# Altium footprint library receiver.PcbLib: 10 footprints
Each footprint in its own frame and in the unit in brackets; x right, y up, seen from the top. Pads: shape width x height; smd on the part's side, far side on the other; paste and mask are expansions set on the pad; w line width, h text height; cw(c..) or ccw(c..) is an arc to the next point about the centre after c.
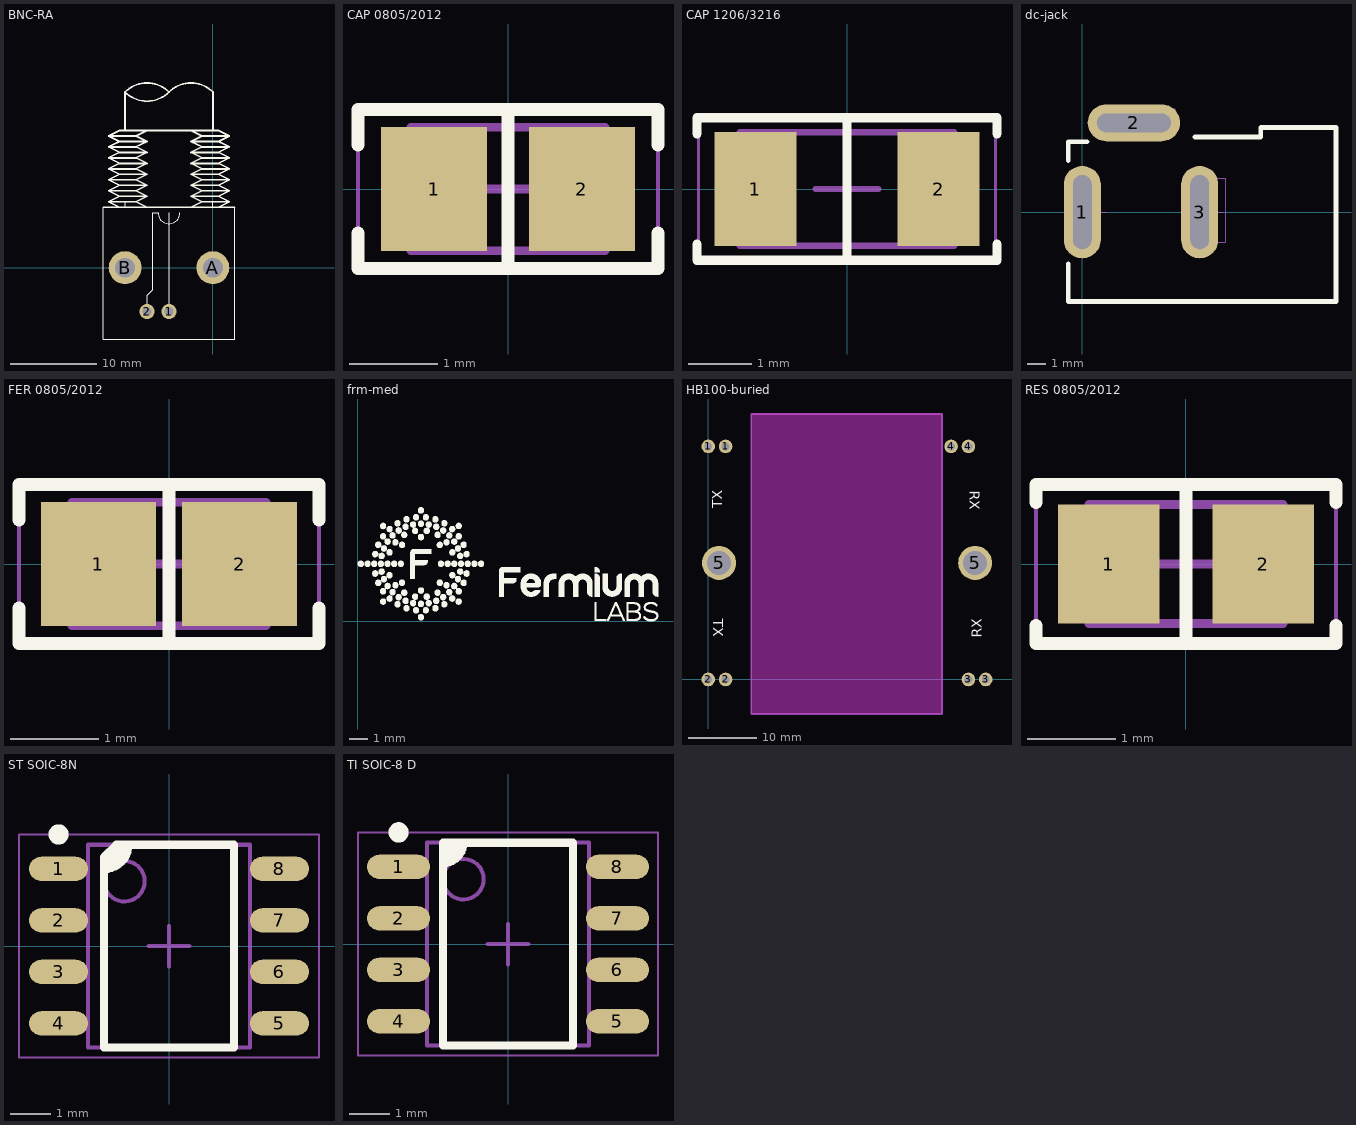
[diagram p0: the footprints below, top view; thin cyan lines are the x and y axes]

## BNC-RA [mil]
pads (4):
  round 70 hole 40: 1(-200,-200) 2(-300,-200)
  round 150 hole 90: A(0,0) B(-400,0)
Top Overlay:
  lines w4: -400,275 -400,300 ; -325,275 100,275 ; -300,-200 -300,-125 -275,-100 -275,250 -250,250 ccw(c-200,250) -150,250 ; -300,275 -500,275 -500,25 -500,-325 100,-325 100,275 ; -200,-200 -200,200 -200,250 -200,225 ; 0,275 0,300 ; 100,-225 100,275
  lines w8: -500,275 100,275 ; -425,275 -475,300 ; -400.17,799.83 ccw(c-300,900) -199.83,799.83 ; -400.17,800.17 cw(c-300,700) -199.83,800.17 ; -400,625 -400,800 ; -300,275 -350,300 ; -200.17,800.17 cw(c-100,700) 0.17,800.17 ; -100,275 -50,300 ; 0,625 0,800 ; 25,275 75,300 ; -475,300 -350,300 ; -475,300 -425,325 ; -475,350 -350,350 ; -475,350 -425,375 ; -475,350 -425,325 ; -475,400 -350,400 ; -475,400 -425,425 ; -475,400 -425,375 ; -475,450 -350,450 ; -475,450 -425,475 ; -475,450 -425,425 ; -475,500 -350,500 ; -475,500 -425,525 ; -475,500 -425,475 ; -475,550 -350,550 ; -475,550 -425,575 ; -475,550 -425,525 ; -475,600 -350,600 ; -475,600 -425,625 ; -475,600 -425,575 ; -425,325 -300,325 ; -425,375 -300,375 ; -425,425 -300,425 ; -425,475 -300,475 ; -425,525 -300,525 ; -425,575 -300,575 ; -425,625 -300,625 -350,600 ; -425,625 25,625 ; -350,300 -300,325 ; -350,350 -300,375 ; -350,350 -300,325 ; -350,400 -300,425 ; -350,400 -300,375 ; -350,450 -300,475 ; -350,450 -300,425 ; -350,500 -300,525 ; -350,500 -300,475 ; -350,550 -300,575 ; -350,550 -300,525 ; -350,600 -300,575 ; -100,325 25,325 ; -100,325 -50,350 ; -100,325 -50,300 ; -100,375 25,375 ; -100,375 -50,400 ; -100,375 -50,350 ; -100,425 25,425 ; -100,425 -50,450 ; -100,425 -50,400 ; -100,475 25,475 ; -100,475 -50,500 ; -100,475 -50,450 ; -100,525 25,525 ; -100,525 -50,550 ; -100,525 -50,500 ; -100,575 25,575 ; -100,575 -50,600 ; -100,575 -50,550 ; -50,300 75,300 ; -50,350 75,350 ; -50,400 75,400 ; -50,450 75,450 ; -50,500 75,500 ; -50,550 75,550 ; -50,600 75,600 ; -50,600 -100,625 25,625 ; 25,325 75,350 ; 25,325 75,300 ; 25,375 75,400 ; 25,375 75,350 ; 25,425 75,450 ; 25,425 75,400 ; 25,475 75,500 ; 25,475 75,450 ; 25,525 75,550 ; 25,525 75,500 ; 25,575 75,600 ; 25,575 75,550 ; 25,625 75,600
3D body "bnc 3.STEP": height 619.21, standoff -168.19, extent -490,-280 91.1,1127.48

## CAP 0805/2012 [mm]
pads (2):
  rect 1.2x1.4 smd: 1(-0.838,0) 2(0.838,0)
Top Overlay:
  lines w0.15: -1.7,-0.5 -1.7,-0.9 1.7,-0.9 1.7,-0.5 ; -1.7,0.5 -1.7,0.9 1.7,0.9 1.7,0.5 ; 0,-0.9 0,0.9
Mechanical 13:
  lines w0.1: -1.1,-0.7 -1.1,0.7 1.1,0.7 1.1,-0.7 -1.1,-0.7
Mechanical 15:
  lines w0.05: -1.7,-0.95 -1.7,0.95 1.7,0.95 1.7,-0.95 -1.7,-0.95
  lines w0.1: -0.5,0 0.5,0 ; 0,-0.5 0,0.5
3D body "0805 cap.STEP": height 1.26, standoff -0.02, extent -1,-0.637 1,0.637

## CAP 1206/3216 [mm]
pads (2):
  rect 1.3x1.8 smd: 1(-1.45,0) 2(1.45,0)
Top Overlay:
  lines w0.15: -2.375,-0.875 -2.375,-1.125 2.375,-1.125 2.375,-0.875 ; -2.375,0.875 -2.375,1.125 2.375,1.125 2.375,0.875 ; 0,-1.125 0,1.125
Mechanical 13:
  lines w0.1: -1.7,-0.9 -1.7,0.9 1.7,0.9 1.7,-0.9 -1.7,-0.9
Mechanical 15:
  lines w0.05: -2.35,-1.15 -2.35,1.15 2.35,1.15 2.35,-1.15 -2.35,-1.15
  lines w0.1: -0.5,0 0.5,0 ; 0,-0.5 0,0.5
3D body "1206 cap.STEP": height 1.62, standoff 0, extent -1.6,-0.812 1.6,0.812

## dc-jack [mm]
pads (3):
  oval 2x5 hole 1 slot 4 at 90 deg: 1(0,0) 3(6.35,0)
  oval 5x2 hole 1 slot 4 at 0 deg: 2(2.794,4.826)
Top Overlay:
  lines w0.254: -0.762,-2.794 -0.762,-4.826 13.716,-4.826 13.716,4.572 9.652,4.572 9.652,4.064 6.096,4.064 ; -0.762,2.794 -0.762,3.81 0.254,3.81
Mechanical 4:
  lines w0.013: -0.535,-1.621 0.561,-1.621 0.561,1.839 -0.535,1.839 -0.535,-1.62 ; -0.091,-0.002 1.321,-0.002 ; 0.006,-0.7 0.006,0.697 ; 1.529,4.506 1.529,5.585 ; 1.53,4.507 5.022,4.507 ; 1.53,5.585 5.022,5.585 ; 3.164,4.998 3.386,4.998 ; 3.274,4.871 3.274,5.107 ; 5.021,4.506 5.021,5.585 ; 6.226,-0.002 7.623,-0.002 ; 6.655,-1.621 7.75,-1.621 ; 6.656,-1.621 6.656,1.839 7.751,1.839 7.751,-1.621 ; 7.197,-0.7 7.197,0.696
3D body "CLIFF_DC10A_FC68148.step": height 11.3, standoff -3.4, extent -0.762,-4.621 13.538,5.129

## FER 0805/2012 [mm]
pads (2):
  rect 1.3x1.4 smd: 1(-0.8,0) 2(0.8,0)
Top Overlay:
  lines w0.15: -1.7,-0.5 -1.7,-0.9 1.7,-0.9 1.7,-0.5 ; -1.7,0.5 -1.7,0.9 1.7,0.9 1.7,0.5 ; 0,-0.9 0,0.9
Mechanical 13:
  lines w0.1: -1.1,-0.7 -1.1,0.7 1.1,0.7 1.1,-0.7 -1.1,-0.7
Mechanical 15:
  lines w0.05: -1.7,-0.95 -1.7,0.95 1.7,0.95 1.7,-0.95 -1.7,-0.95
  lines w0.1: -0.5,0 0.5,0 ; 0,-0.5 0,0.5
3D body "FER 0805.STEP": height 1.26, standoff -0.02, extent -1,-0.637 1,0.637

## frm-med [mm]
Top Overlay:
  drawing of 8102 lines, arcs and shapes, not listed

## HB100-buried [mm]
pads (10):
  round 2 hole 1.143: 1(0,34.188) 1(2.54,34.188) 2(0,0) 2(2.54,0) 3(38.151,0) 3(40.691,0) 4(35.611,34.188) 4(38.151,34.188)
  round 5 hole 3.5: 5(1.575,17.094) 5(39.141,17.094)
Top Overlay:
  text "RX" at 38.354,27.686 h1.52
  text "TX" at 0.762,8.89 h1.52
  text "TX" at 2.032,25.146 h1.52
  text "RX" at 40.132,6.096 h1.52
Keep-Out Layer:
  board cut-out: 34.286,38.934 34.286,-5.066 6.286,-5.066 6.286,38.934
Mechanical 1:
  lines w0.254: 6.286,-5.066 34.286,-5.066 34.286,38.934 6.286,38.934 6.286,-5.066
  text "## CUT CUT CUT ## / ## CUT CUT CUT ## / ## CUT CUT CUT ## / ## CUT CUT CUT ## / ## CUT CUT CUT ## / ## CUT CUT CUT ## / ## CUT CUT CUT ## / ## CUT CUT CUT ## / ## CUT CUT CUT ## / ## CUT CUT CUT ## / ## CUT CUT CUT ## / ## CUT CUT CUT ## / ## CUT CUT CUT ## / ## CUT CUT CUT ## / ## CUT CUT CUT ## / ## CUT CUT CUT ## / ## CUT CUT CUT ## / ## CUT CUT CUT ##" at 7.366,-4.826 h1.52
3D body "HB_100.step": height 3, standoff -4.7, extent -3.023,-2.997 43.477,37.003

## RES 0805/2012 [mm]
pads (2):
  rect 1.15x1.35 smd: 1(-0.875,0) 2(0.875,0)
Top Overlay:
  lines w0.15: -1.7,-0.7 -1.7,-0.9 1.7,-0.9 1.7,-0.7 ; -1.7,0.7 -1.7,0.9 1.7,0.9 1.7,0.7 ; 0,-0.9 0,0.9
Mechanical 13:
  lines w0.1: -1.1,-0.675 1.1,-0.675 1.1,0.675 -1.1,0.675 -1.1,-0.675
Mechanical 15:
  lines w0.05: -1.7,-0.95 1.7,-0.95 1.7,0.95 -1.7,0.95 -1.7,-0.95
  lines w0.1: -0.5,0 0.5,0 ; 0,-0.5 0,0.5
3D body "0805 resistor.STEP": height 0.6, standoff 0, extent -0.95,-0.625 1.05,0.625

## ST SOIC-8N [mm]
pads (8):
  oval 1.45x0.6 smd: 1(-2.725,1.905) 2(-2.725,0.635) 3(-2.725,-0.635) 4(-2.725,-1.905) 5(2.725,-1.905) 6(2.725,-0.635) 7(2.725,0.635) 8(2.725,1.905)
Top Overlay:
  circle w0.25: c-2.725,2.755 r0.125
  region: -1.6,1.9 -1.481,1.9 -1.26,1.991 -1.091,2.16 -1,2.381 -1,2.5 -1.3,2.5 -1.6,2.2
  lines w0.2: -1.6,1.9 ccw(c-1.6,2.5) -1,2.5 ; -1.6,-2.5 -1.6,2.2 -1.3,2.5 1.6,2.5 1.6,-2.5 -1.6,-2.5
Mechanical 13:
  circle w0.1: c-1.1,1.6 r0.5
  lines w0.1: -2,-2.5 2,-2.5 2,2.5 -2,2.5 -2,-2.5
Mechanical 15:
  lines w0.05: -3.7,-2.75 3.7,-2.75 3.7,2.75 -3.7,2.75 -3.7,-2.75
  lines w0.1: -0.5,0 0.5,0 ; 0,-0.5 0,0.5
3D body "SO-8.STEP": height 1.5, standoff 0, extent -3.014,-2.45 3.014,2.45

## TI SOIC-8 D [mm]
pads (8):
  oval 1.55x0.6 smd: 1(-2.7,1.905) 2(-2.7,0.635) 3(-2.7,-0.635) 4(-2.7,-1.905) 5(2.7,-1.905) 6(2.7,-0.635) 7(2.7,0.635) 8(2.7,1.905)
Top Overlay:
  circle w0.25: c-2.7,2.755 r0.125
  region: -1.6,2.5 -1.6,2 -1.4,2 -1.1,2.3 -1.1,2.5
  lines w0.2: -1.6,2 ccw(c-1.6,2.5) -1.1,2.5 ; -1.6,-2.5 -1.6,2.5 1.6,2.5 1.6,-2.5 -1.6,-2.5
Mechanical 13:
  circle w0.1: c-1.1,1.6 r0.5
  lines w0.1: -2,-2.5 -2,2.5 2,2.5 2,-2.5 -2,-2.5
Mechanical 15:
  lines w0.05: -3.7,-2.75 -3.7,2.75 3.7,2.75 3.7,-2.75 -3.7,-2.75
  lines w0.1: -0.5,0 0.5,0 ; 0,-0.5 0,0.5
3D body "SO-8.STEP": height 1.5, standoff 0, extent -3.014,-2.45 3.014,2.45